# EAGLE library part DS90UB960WRTDRQ1 (library DS90UB960WRTDRQ1)
LVDS Deserializer 4160Mbps Automotive 64-Pin VQFN EP T/R Source: Datasheet <https://www.ti.com/lit/ds/symlink/ds90ub960-q1.pdf?HQS=dis-mous-null-mousermode-dsf-pf-null-wwe&DCM=yes&ref_u>
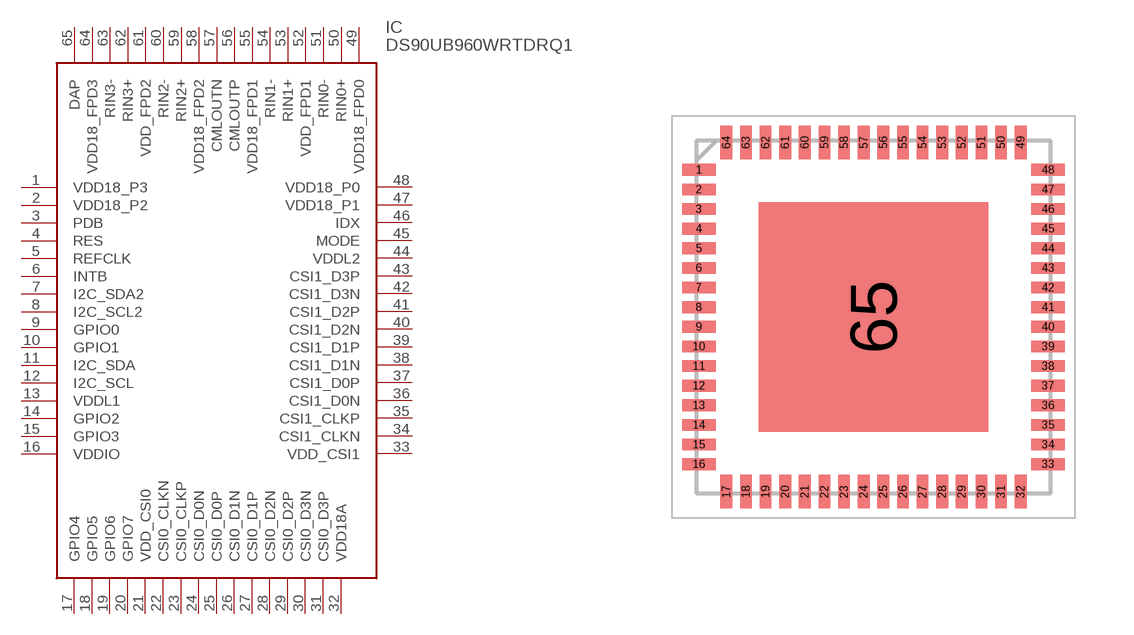
[diagram p0: symbol with the pads of QFN50P900X900X90-65N; footprint QFN50P900X900X90-65N]

Designator prefix IC

## DS90UB960WRTDRQ1 (Description: LVDS Deserializer 4160Mbps Automotive 64-Pin VQFN EP T/R; Height: 0.9mm; Manufacturer_Name: Texas Instruments; Manufacturer_Part_Number: DS90UB960WRTDRQ1; Mouser_Part_Number: 595-DS90UB960WRTDRQ1; Mouser_Price-Stock: https://www.mouser.co.uk/ProductDetail/Texas-Instruments/DS90UB960WRTDRQ1?qs=EU6FO9ffTwdY8goEJWiHUg%3D%3D)  [QFN50P900X900X90-65N]
1  VDD18_P3
2  VDD18_P2
3  PDB
4  RES
5  REFCLK
6  INTB
7  I2C_SDA2
8  I2C_SCL2
9  GPIO0
10  GPIO1
11  I2C_SDA
12  I2C_SCL
13  VDDL1
14  GPIO2
15  GPIO3
16  VDDIO
17  GPIO4
18  GPIO5
19  GPIO6
20  GPIO7
21  VDD_CSI0
22  CSI0_CLKN
23  CSI0_CLKP
24  CSI0_D0N
25  CSI0_D0P
26  CSI0_D1N
27  CSI0_D1P
28  CSI0_D2N
29  CSI0_D2P
30  CSI0_D3N
31  CSI0_D3P
32  VDD18A
33  VDD_CSI1
34  CSI1_CLKN
35  CSI1_CLKP
36  CSI1_D0N
37  CSI1_D0P
38  CSI1_D1N
39  CSI1_D1P
40  CSI1_D2N
41  CSI1_D2P
42  CSI1_D3N
43  CSI1_D3P
44  VDDL2
45  MODE
46  IDX
47  VDD18_P1
48  VDD18_P0
49  VDD18_FPD0
50  RIN0+
51  RIN0-
52  VDD_FPD1
53  RIN1+
54  RIN1-
55  VDD18_FPD1
56  CMLOUTP
57  CMLOUTN
58  VDD18_FPD2
59  RIN2+
60  RIN2-
61  VDD_FPD2
62  RIN3+
63  RIN3-
64  VDD18_FPD3
65  DAP

## Footprint QFN50P900X900X90-65N (pad centres in mm)
RTD0064F
smd 0.85 x 0.3: 1 -4.45,3.75; 2 -4.45,3.25; 3 -4.45,2.75; 4 -4.45,2.25; 5 -4.45,1.75; 6 -4.45,1.25; 7 -4.45,0.75; 8 -4.45,0.25; 9 -4.45,-0.25; 10 -4.45,-0.75; 11 -4.45,-1.25; 12 -4.45,-1.75; 13 -4.45,-2.25; 14 -4.45,-2.75; 15 -4.45,-3.25; 16 -4.45,-3.75; 33 4.45,-3.75; 34 4.45,-3.25; 35 4.45,-2.75; 36 4.45,-2.25; 37 4.45,-1.75; 38 4.45,-1.25; 39 4.45,-0.75; 40 4.45,-0.25; 41 4.45,0.25; 42 4.45,0.75; 43 4.45,1.25; 44 4.45,1.75; 45 4.45,2.25; 46 4.45,2.75; 47 4.45,3.25; 48 4.45,3.75
smd 0.3 x 0.85: 17 -3.75,-4.45; 18 -3.25,-4.45; 19 -2.75,-4.45; 20 -2.25,-4.45; 21 -1.75,-4.45; 22 -1.25,-4.45; 23 -0.75,-4.45; 24 -0.25,-4.45; 25 0.25,-4.45; 26 0.75,-4.45; 27 1.25,-4.45; 28 1.75,-4.45; 29 2.25,-4.45; 30 2.75,-4.45; 31 3.25,-4.45; 32 3.75,-4.45; 49 3.75,4.45; 50 3.25,4.45; 51 2.75,4.45; 52 2.25,4.45; 53 1.75,4.45; 54 1.25,4.45; 55 0.75,4.45; 56 0.25,4.45; 57 -0.25,4.45; 58 -0.75,4.45; 59 -1.25,4.45; 60 -1.75,4.45; 61 -2.25,4.45; 62 -2.75,4.45; 63 -3.25,4.45; 64 -3.75,4.45
smd 5.85 x 5.85: 65 0,0